# Altium footprint library con-3m.PCBLIB: 62 footprints (part 4 of 5)
Each footprint in its own frame and in the unit in brackets; x right, y up, seen from the top. Pads: shape width x height; smd on the part's side, far side on the other; paste and mask are expansions set on the pad; w line width, h text height; cw(c..) or ccw(c..) is an arc to the next point about the centre after c.
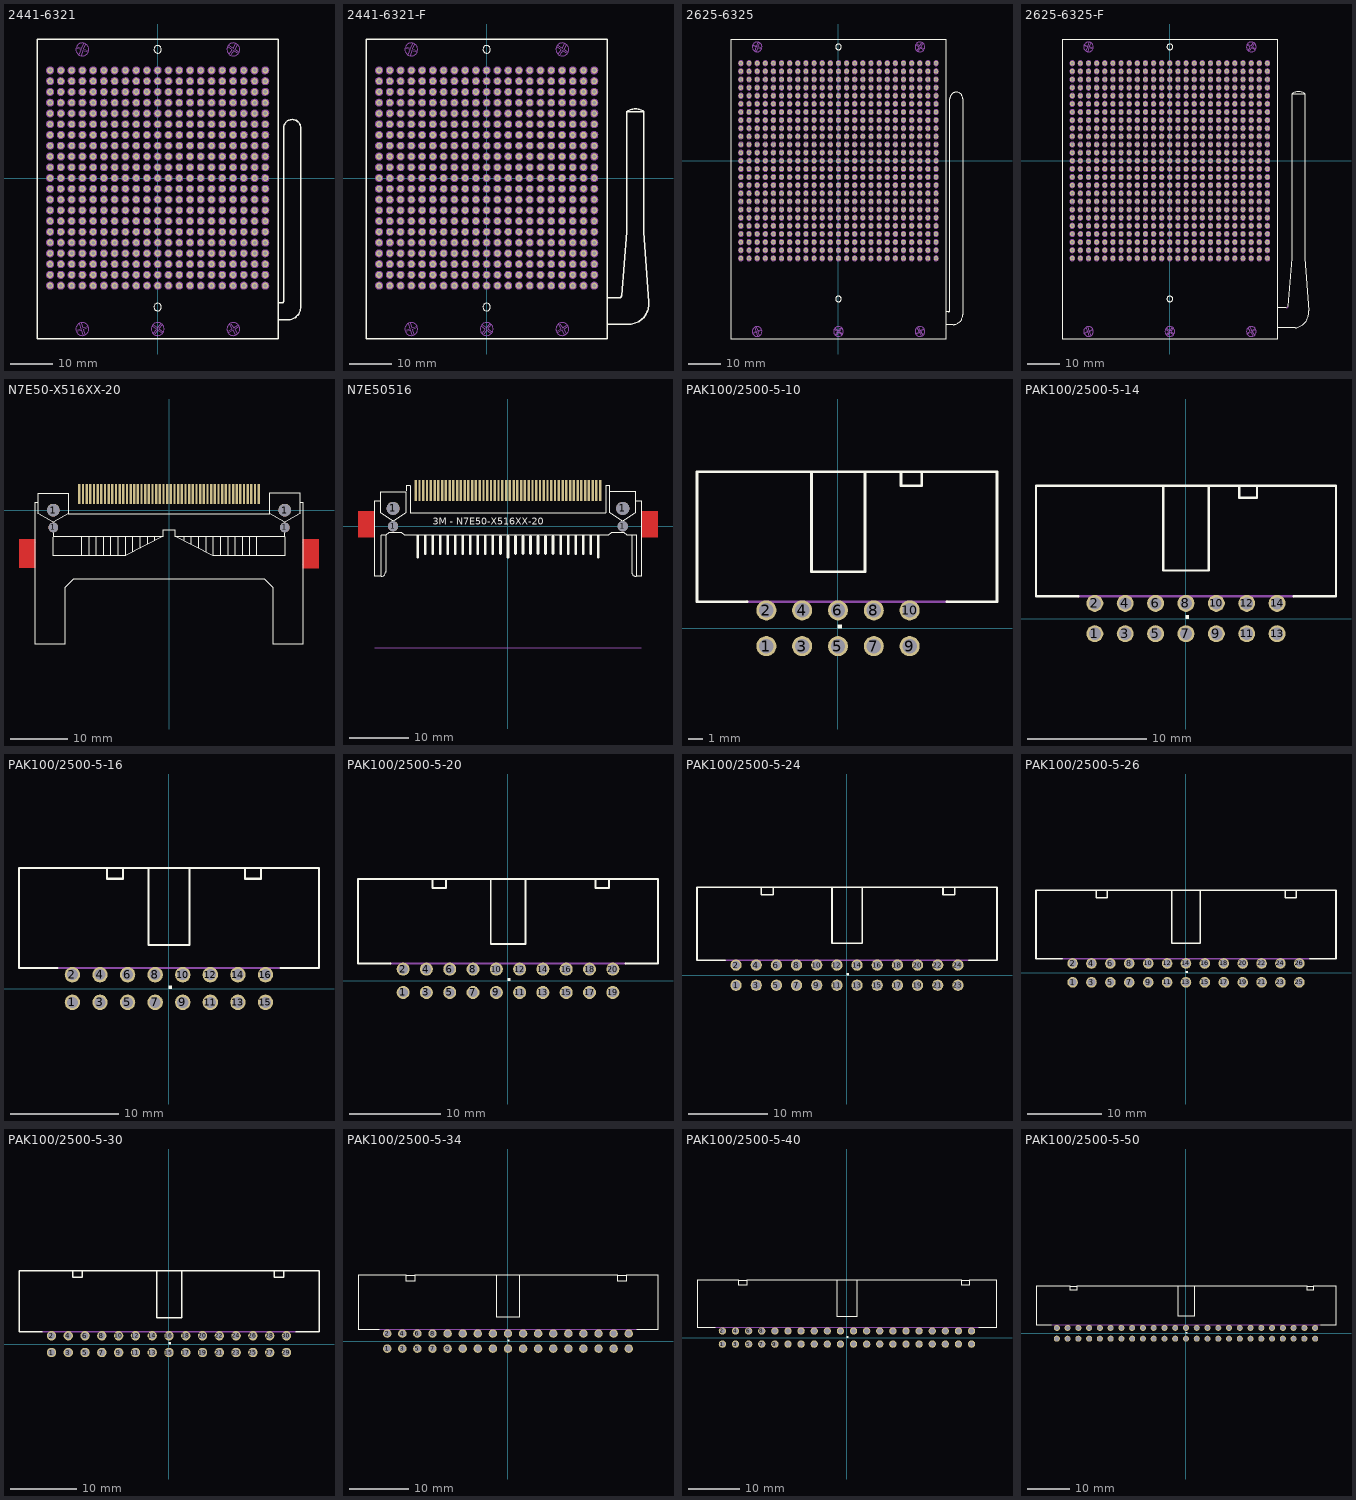
[diagram p3: the footprints below, top view; thin cyan lines are the x and y axes]

## 2441-6321 [mil]
pads (441):
  round 56 hole 32: A1(-1000,1000) A2(-900,1000) A3(-800,1000) A4(-700,1000) A5(-600,1000) A6(-500,1000) A7(-400,1000) A8(-300,1000) A9(-200,1000) A10(-100,1000) A11(0,1000) A12(100,1000) A13(200,1000) A14(300,1000) A15(400,1000) A16(500,1000) A17(600,1000) A18(700,1000) A19(800,1000) A20(900,1000) A21(1000,1000) B1(-1000,900) B2(-900,900) B3(-800,900) B4(-700,900) B5(-600,900) B6(-500,900) B7(-400,900) B8(-300,900) B9(-200,900) B10(-100,900) B11(0,900) B12(100,900) B13(200,900) B14(300,900) B15(400,900) B16(500,900) B17(600,900) B18(700,900) B19(800,900) B20(900,900) B21(1000,900) C1(-1000,800) C2(-900,800) C3(-800,800) C4(-700,800) C5(-600,800) C6(-500,800) C7(-400,800) C8(-300,800) C9(-200,800) C10(-100,800) C11(0,800) C12(100,800) C13(200,800) C14(300,800) C15(400,800) C16(500,800) C17(600,800) C18(700,800) C19(800,800) C20(900,800) C21(1000,800) D1(-1000,700) D2(-900,700) D3(-800,700) D4(-700,700) D5(-600,700) D6(-500,700) D7(-400,700) D8(-300,700) D9(-200,700) D10(-100,700) D11(0,700) D12(100,700) D13(200,700) D14(300,700) D15(400,700) D16(500,700) D17(600,700) D18(700,700) D19(800,700) D20(900,700) D21(1000,700) E1(-1000,600) E2(-900,600) E3(-800,600) E4(-700,600) E5(-600,600) E6(-500,600) E7(-400,600) E8(-300,600) E9(-200,600) E10(-100,600) E11(0,600) E12(100,600) E13(200,600) E14(300,600) E15(400,600) E16(500,600) E17(600,600) E18(700,600) E19(800,600) E20(900,600) E21(1000,600) F1(-1000,500) F2(-900,500) F3(-800,500) F4(-700,500) F5(-600,500) F6(-500,500) F7(-400,500) F8(-300,500) F9(-200,500) F10(-100,500) F11(0,500) F12(100,500) F13(200,500) F14(300,500) F15(400,500) F16(500,500) F17(600,500) F18(700,500) F19(800,500) F20(900,500) F21(1000,500) G1(-1000,400) G2(-900,400) G3(-800,400) G4(-700,400) G5(-600,400) G6(-500,400) G7(-400,400) G8(-300,400) G9(-200,400) G10(-100,400) G11(0,400) G12(100,400) G13(200,400) G14(300,400) G15(400,400) G16(500,400) G17(600,400) G18(700,400) G19(800,400) G20(900,400) G21(1000,400) H1(-1000,300) H2(-900,300) H3(-800,300) H4(-700,300) H5(-600,300) H6(-500,300) H7(-400,300) H8(-300,300) H9(-200,300) H10(-100,300) H11(0,300) H12(100,300) H13(200,300) H14(300,300) H15(400,300) H16(500,300) H17(600,300) H18(700,300) H19(800,300) H20(900,300) H21(1000,300) J1(-1000,200) J2(-900,200) J3(-800,200) J4(-700,200) J5(-600,200) J6(-500,200) J7(-400,200) J8(-300,200) J9(-200,200) J10(-100,200) J11(0,200) J12(100,200) J13(200,200) J14(300,200) J15(400,200) J16(500,200) J17(600,200) J18(700,200) J19(800,200) J20(900,200) J21(1000,200) K1(-1000,100) K2(-900,100) K3(-800,100) K4(-700,100) K5(-600,100) K6(-500,100) K7(-400,100) K8(-300,100) K9(-200,100) K10(-100,100) K11(0,100) K12(100,100) K13(200,100) K14(300,100) K15(400,100) K16(500,100) K17(600,100) K18(700,100) K19(800,100) K20(900,100) K21(1000,100) L1(-1000,0) L2(-900,0) L3(-800,0) L4(-700,0) L5(-600,0) L6(-500,0) L7(-400,0) L8(-300,0) L9(-200,0) L10(-100,0) L11(0,0) L12(100,0) L13(200,0) L14(300,0) L15(400,0) L16(500,0) L17(600,0) L18(700,0) L19(800,0) L20(900,0) L21(1000,0) M1(-1000,-100) M2(-900,-100) M3(-800,-100) M4(-700,-100) M5(-600,-100) M6(-500,-100) M7(-400,-100) M8(-300,-100) M9(-200,-100) M10(-100,-100) M11(0,-100) M12(100,-100) M13(200,-100) M14(300,-100) M15(400,-100) M16(500,-100) M17(600,-100) M18(700,-100) M19(800,-100) M20(900,-100) M21(1000,-100) N1(-1000,-200) N2(-900,-200) N3(-800,-200) N4(-700,-200) N5(-600,-200) N6(-500,-200) N7(-400,-200) N8(-300,-200) N9(-200,-200) N10(-100,-200) N11(0,-200) N12(100,-200) N13(200,-200) N14(300,-200) N15(400,-200) N16(500,-200) N17(600,-200) N18(700,-200) N19(800,-200) N20(900,-200) N21(1000,-200) P1(-1000,-300) P2(-900,-300) P3(-800,-300) P4(-700,-300) P5(-600,-300) P6(-500,-300) P7(-400,-300) P8(-300,-300) P9(-200,-300) P10(-100,-300) P11(0,-300) P12(100,-300) P13(200,-300) P14(300,-300) P15(400,-300) P16(500,-300) P17(600,-300) P18(700,-300) P19(800,-300) P20(900,-300) P21(1000,-300) Q1(-1000,-400) Q2(-900,-400) Q3(-800,-400) Q4(-700,-400) Q5(-600,-400) Q6(-500,-400) Q7(-400,-400) Q8(-300,-400) Q9(-200,-400) Q10(-100,-400) Q11(0,-400) Q12(100,-400) Q13(200,-400) Q14(300,-400) Q15(400,-400) Q16(500,-400) Q17(600,-400) Q18(700,-400) Q19(800,-400) Q20(900,-400) Q21(1000,-400) R1(-1000,-500) R2(-900,-500) R3(-800,-500) R4(-700,-500) R5(-600,-500) R6(-500,-500) R7(-400,-500) R8(-300,-500) R9(-200,-500) R10(-100,-500) R11(0,-500) R12(100,-500) R13(200,-500) R14(300,-500) R15(400,-500) R16(500,-500) R17(600,-500) R18(700,-500) R19(800,-500) R20(900,-500) R21(1000,-500) S1(-1000,-600) S2(-900,-600) S3(-800,-600) S4(-700,-600) S5(-600,-600) S6(-500,-600) S7(-400,-600) S8(-300,-600) S9(-200,-600) S10(-100,-600) S11(0,-600) S12(100,-600) S13(200,-600) S14(300,-600) S15(400,-600) S16(500,-600) S17(600,-600) S18(700,-600) S19(800,-600) S20(900,-600) S21(1000,-600) T1(-1000,-700) T2(-900,-700) T3(-800,-700) T4(-700,-700) T5(-600,-700) T6(-500,-700) T7(-400,-700) T8(-300,-700) T9(-200,-700) T10(-100,-700) T11(0,-700) T12(100,-700) T13(200,-700) T14(300,-700) T15(400,-700) T16(500,-700) T17(600,-700) T18(700,-700) T19(800,-700) T20(900,-700) T21(1000,-700) U1(-1000,-800) U2(-900,-800) U3(-800,-800) U4(-700,-800) U5(-600,-800) U6(-500,-800) U7(-400,-800) U8(-300,-800) U9(-200,-800) U10(-100,-800) U11(0,-800) U12(100,-800) U13(200,-800) U14(300,-800) U15(400,-800) U16(500,-800) U17(600,-800) U18(700,-800) U19(800,-800) U20(900,-800) U21(1000,-800) V1(-1000,-900) V2(-900,-900) V3(-800,-900) V4(-700,-900) V5(-600,-900) V6(-500,-900) V7(-400,-900) V8(-300,-900) V9(-200,-900) V10(-100,-900) V11(0,-900) V12(100,-900) V13(200,-900) V14(300,-900) V15(400,-900) V16(500,-900) V17(600,-900) V18(700,-900) V19(800,-900) V20(900,-900) V21(1000,-900) W1(-1000,-1000) W2(-900,-1000) W3(-800,-1000) W4(-700,-1000) W5(-600,-1000) W6(-500,-1000) W7(-400,-1000) W8(-300,-1000) W9(-200,-1000) W10(-100,-1000) W11(0,-1000) W12(100,-1000) W13(200,-1000) W14(300,-1000) W15(400,-1000) W16(500,-1000) W17(600,-1000) W18(700,-1000) W19(800,-1000) W20(900,-1000) W21(1000,-1000)
Top Overlay:
  circle w4: c0,1196 r35
  circle w4: c0,-1199 r35
  lines w12: 1121,-1318.7 1210,-1318.7 ccw(c1207.88,-1198.58) 1328,-1196.46 1328,465 ccw(c1249.5,465.5) 1250,544 ccw(c1250,465) 1171,465 1171,-1141.54 cw(c1151.16,-1141.38) 1151,-1161.22 1121,-1161.22 ; -1119.09,-1495.87 1119,-1495.87 1119,1292 -1119.09,1292 -1119.09,-1495.87
Mechanical 16:
  drawing of 486 lines, arcs and shapes, not listed

## 2441-6321-F [mil]
pads (441):
  round 56 hole 32: A1(-1000,1000) A2(-900,1000) A3(-800,1000) A4(-700,1000) A5(-600,1000) A6(-500,1000) A7(-400,1000) A8(-300,1000) A9(-200,1000) A10(-100,1000) A11(0,1000) A12(100,1000) A13(200,1000) A14(300,1000) A15(400,1000) A16(500,1000) A17(600,1000) A18(700,1000) A19(800,1000) A20(900,1000) A21(1000,1000) B1(-1000,900) B2(-900,900) B3(-800,900) B4(-700,900) B5(-600,900) B6(-500,900) B7(-400,900) B8(-300,900) B9(-200,900) B10(-100,900) B11(0,900) B12(100,900) B13(200,900) B14(300,900) B15(400,900) B16(500,900) B17(600,900) B18(700,900) B19(800,900) B20(900,900) B21(1000,900) C1(-1000,800) C2(-900,800) C3(-800,800) C4(-700,800) C5(-600,800) C6(-500,800) C7(-400,800) C8(-300,800) C9(-200,800) C10(-100,800) C11(0,800) C12(100,800) C13(200,800) C14(300,800) C15(400,800) C16(500,800) C17(600,800) C18(700,800) C19(800,800) C20(900,800) C21(1000,800) D1(-1000,700) D2(-900,700) D3(-800,700) D4(-700,700) D5(-600,700) D6(-500,700) D7(-400,700) D8(-300,700) D9(-200,700) D10(-100,700) D11(0,700) D12(100,700) D13(200,700) D14(300,700) D15(400,700) D16(500,700) D17(600,700) D18(700,700) D19(800,700) D20(900,700) D21(1000,700) E1(-1000,600) E2(-900,600) E3(-800,600) E4(-700,600) E5(-600,600) E6(-500,600) E7(-400,600) E8(-300,600) E9(-200,600) E10(-100,600) E11(0,600) E12(100,600) E13(200,600) E14(300,600) E15(400,600) E16(500,600) E17(600,600) E18(700,600) E19(800,600) E20(900,600) E21(1000,600) F1(-1000,500) F2(-900,500) F3(-800,500) F4(-700,500) F5(-600,500) F6(-500,500) F7(-400,500) F8(-300,500) F9(-200,500) F10(-100,500) F11(0,500) F12(100,500) F13(200,500) F14(300,500) F15(400,500) F16(500,500) F17(600,500) F18(700,500) F19(800,500) F20(900,500) F21(1000,500) G1(-1000,400) G2(-900,400) G3(-800,400) G4(-700,400) G5(-600,400) G6(-500,400) G7(-400,400) G8(-300,400) G9(-200,400) G10(-100,400) G11(0,400) G12(100,400) G13(200,400) G14(300,400) G15(400,400) G16(500,400) G17(600,400) G18(700,400) G19(800,400) G20(900,400) G21(1000,400) H1(-1000,300) H2(-900,300) H3(-800,300) H4(-700,300) H5(-600,300) H6(-500,300) H7(-400,300) H8(-300,300) H9(-200,300) H10(-100,300) H11(0,300) H12(100,300) H13(200,300) H14(300,300) H15(400,300) H16(500,300) H17(600,300) H18(700,300) H19(800,300) H20(900,300) H21(1000,300) J1(-1000,200) J2(-900,200) J3(-800,200) J4(-700,200) J5(-600,200) J6(-500,200) J7(-400,200) J8(-300,200) J9(-200,200) J10(-100,200) J11(0,200) J12(100,200) J13(200,200) J14(300,200) J15(400,200) J16(500,200) J17(600,200) J18(700,200) J19(800,200) J20(900,200) J21(1000,200) K1(-1000,100) K2(-900,100) K3(-800,100) K4(-700,100) K5(-600,100) K6(-500,100) K7(-400,100) K8(-300,100) K9(-200,100) K10(-100,100) K11(0,100) K12(100,100) K13(200,100) K14(300,100) K15(400,100) K16(500,100) K17(600,100) K18(700,100) K19(800,100) K20(900,100) K21(1000,100) L1(-1000,0) L2(-900,0) L3(-800,0) L4(-700,0) L5(-600,0) L6(-500,0) L7(-400,0) L8(-300,0) L9(-200,0) L10(-100,0) L11(0,0) L12(100,0) L13(200,0) L14(300,0) L15(400,0) L16(500,0) L17(600,0) L18(700,0) L19(800,0) L20(900,0) L21(1000,0) M1(-1000,-100) M2(-900,-100) M3(-800,-100) M4(-700,-100) M5(-600,-100) M6(-500,-100) M7(-400,-100) M8(-300,-100) M9(-200,-100) M10(-100,-100) M11(0,-100) M12(100,-100) M13(200,-100) M14(300,-100) M15(400,-100) M16(500,-100) M17(600,-100) M18(700,-100) M19(800,-100) M20(900,-100) M21(1000,-100) N1(-1000,-200) N2(-900,-200) N3(-800,-200) N4(-700,-200) N5(-600,-200) N6(-500,-200) N7(-400,-200) N8(-300,-200) N9(-200,-200) N10(-100,-200) N11(0,-200) N12(100,-200) N13(200,-200) N14(300,-200) N15(400,-200) N16(500,-200) N17(600,-200) N18(700,-200) N19(800,-200) N20(900,-200) N21(1000,-200) P1(-1000,-300) P2(-900,-300) P3(-800,-300) P4(-700,-300) P5(-600,-300) P6(-500,-300) P7(-400,-300) P8(-300,-300) P9(-200,-300) P10(-100,-300) P11(0,-300) P12(100,-300) P13(200,-300) P14(300,-300) P15(400,-300) P16(500,-300) P17(600,-300) P18(700,-300) P19(800,-300) P20(900,-300) P21(1000,-300) Q1(-1000,-400) Q2(-900,-400) Q3(-800,-400) Q4(-700,-400) Q5(-600,-400) Q6(-500,-400) Q7(-400,-400) Q8(-300,-400) Q9(-200,-400) Q10(-100,-400) Q11(0,-400) Q12(100,-400) Q13(200,-400) Q14(300,-400) Q15(400,-400) Q16(500,-400) Q17(600,-400) Q18(700,-400) Q19(800,-400) Q20(900,-400) Q21(1000,-400) R1(-1000,-500) R2(-900,-500) R3(-800,-500) R4(-700,-500) R5(-600,-500) R6(-500,-500) R7(-400,-500) R8(-300,-500) R9(-200,-500) R10(-100,-500) R11(0,-500) R12(100,-500) R13(200,-500) R14(300,-500) R15(400,-500) R16(500,-500) R17(600,-500) R18(700,-500) R19(800,-500) R20(900,-500) R21(1000,-500) S1(-1000,-600) S2(-900,-600) S3(-800,-600) S4(-700,-600) S5(-600,-600) S6(-500,-600) S7(-400,-600) S8(-300,-600) S9(-200,-600) S10(-100,-600) S11(0,-600) S12(100,-600) S13(200,-600) S14(300,-600) S15(400,-600) S16(500,-600) S17(600,-600) S18(700,-600) S19(800,-600) S20(900,-600) S21(1000,-600) T1(-1000,-700) T2(-900,-700) T3(-800,-700) T4(-700,-700) T5(-600,-700) T6(-500,-700) T7(-400,-700) T8(-300,-700) T9(-200,-700) T10(-100,-700) T11(0,-700) T12(100,-700) T13(200,-700) T14(300,-700) T15(400,-700) T16(500,-700) T17(600,-700) T18(700,-700) T19(800,-700) T20(900,-700) T21(1000,-700) U1(-1000,-800) U2(-900,-800) U3(-800,-800) U4(-700,-800) U5(-600,-800) U6(-500,-800) U7(-400,-800) U8(-300,-800) U9(-200,-800) U10(-100,-800) U11(0,-800) U12(100,-800) U13(200,-800) U14(300,-800) U15(400,-800) U16(500,-800) U17(600,-800) U18(700,-800) U19(800,-800) U20(900,-800) U21(1000,-800) V1(-1000,-900) V2(-900,-900) V3(-800,-900) V4(-700,-900) V5(-600,-900) V6(-500,-900) V7(-400,-900) V8(-300,-900) V9(-200,-900) V10(-100,-900) V11(0,-900) V12(100,-900) V13(200,-900) V14(300,-900) V15(400,-900) V16(500,-900) V17(600,-900) V18(700,-900) V19(800,-900) V20(900,-900) V21(1000,-900) W1(-1000,-1000) W2(-900,-1000) W3(-800,-1000) W4(-700,-1000) W5(-600,-1000) W6(-500,-1000) W7(-400,-1000) W8(-300,-1000) W9(-200,-1000) W10(-100,-1000) W11(0,-1000) W12(100,-1000) W13(200,-1000) W14(300,-1000) W15(400,-1000) W16(500,-1000) W17(600,-1000) W18(700,-1000) W19(800,-1000) W20(900,-1000) W21(1000,-1000)
Top Overlay:
  circle w4: c0,1196 r35
  circle w4: c0,-1199 r35
  lines w12: 1120,-1357.09 1343,-1357.09 ccw(c1319.67,-1171.76) 1505,-1148.43 1461,-501.97 1461,617 ; 1124,-1112.99 1233,-1112.99 ccw(c1233.16,-1093.15) 1253,-1093.31 1304,-500 1304,617 ; 1304,617 1461,617 ; 1304,617 cw(c1382.5,509.67) 1461,617 ; -1119.09,-1495.87 1119,-1495.87 1119,1292 -1119.09,1292 -1119.09,-1495.87
Mechanical 16:
  drawing of 486 lines, arcs and shapes, not listed

## 2625-6325 [mil]
pads (625):
  round 56 hole 32: A1(-1200,1200) A2(-1100,1200) A3(-1000,1200) A4(-900,1200) A5(-800,1200) A6(-700,1200) A7(-600,1200) A8(-500,1200) A9(-400,1200) A10(-300,1200) A11(-200,1200) A12(-100,1200) A13(0,1200) A14(100,1200) A15(200,1200) A16(300,1200) A17(400,1200) A18(500,1200) A19(600,1200) A20(700,1200) A21(800,1200) A22(900,1200) A23(1000,1200) A24(1100,1200) A25(1200,1200) AA1(-1200,-1200) AA2(-1100,-1200) AA3(-1000,-1200) AA4(-900,-1200) AA5(-800,-1200) AA6(-700,-1200) AA7(-600,-1200) AA8(-500,-1200) AA9(-400,-1200) AA10(-300,-1200) AA11(-200,-1200) AA12(-100,-1200) AA13(0,-1200) AA14(100,-1200) AA15(200,-1200) AA16(300,-1200) AA17(400,-1200) AA18(500,-1200) AA19(600,-1200) AA20(700,-1200) AA21(800,-1200) AA22(900,-1200) AA23(1000,-1200) AA24(1100,-1200) AA25(1200,-1200) B1(-1200,1100) B2(-1100,1100) B3(-1000,1100) B4(-900,1100) B5(-800,1100) B6(-700,1100) B7(-600,1100) B8(-500,1100) B9(-400,1100) B10(-300,1100) B11(-200,1100) B12(-100,1100) B13(0,1100) B14(100,1100) B15(200,1100) B16(300,1100) B17(400,1100) B18(500,1100) B19(600,1100) B20(700,1100) B21(800,1100) B22(900,1100) B23(1000,1100) B24(1100,1100) B25(1200,1100) C1(-1200,1000) C2(-1100,1000) C3(-1000,1000) C4(-900,1000) C5(-800,1000) C6(-700,1000) C7(-600,1000) C8(-500,1000) C9(-400,1000) C10(-300,1000) C11(-200,1000) C12(-100,1000) C13(0,1000) C14(100,1000) C15(200,1000) C16(300,1000) C17(400,1000) C18(500,1000) C19(600,1000) C20(700,1000) C21(800,1000) C22(900,1000) C23(1000,1000) C24(1100,1000) C25(1200,1000) D1(-1200,900) D2(-1100,900) D3(-1000,900) D4(-900,900) D5(-800,900) D6(-700,900) D7(-600,900) D8(-500,900) D9(-400,900) D10(-300,900) D11(-200,900) D12(-100,900) D13(0,900) D14(100,900) D15(200,900) D16(300,900) D17(400,900) D18(500,900) D19(600,900) D20(700,900) D21(800,900) D22(900,900) D23(1000,900) D24(1100,900) D25(1200,900) E1(-1200,800) E2(-1100,800) E3(-1000,800) E4(-900,800) E5(-800,800) E6(-700,800) E7(-600,800) E8(-500,800) E9(-400,800) E10(-300,800) E11(-200,800) E12(-100,800) E13(0,800) E14(100,800) E15(200,800) E16(300,800) E17(400,800) E18(500,800) E19(600,800) E20(700,800) E21(800,800) E22(900,800) E23(1000,800) E24(1100,800) E25(1200,800) F1(-1200,700) F2(-1100,700) F3(-1000,700) F4(-900,700) F5(-800,700) F6(-700,700) F7(-600,700) F8(-500,700) F9(-400,700) F10(-300,700) F11(-200,700) F12(-100,700) F13(0,700) F14(100,700) F15(200,700) F16(300,700) F17(400,700) F18(500,700) F19(600,700) F20(700,700) F21(800,700) F22(900,700) F23(1000,700) F24(1100,700) F25(1200,700) G1(-1200,600) G2(-1100,600) G3(-1000,600) G4(-900,600) G5(-800,600) G6(-700,600) G7(-600,600) G8(-500,600) G9(-400,600) G10(-300,600) G11(-200,600) G12(-100,600) G13(0,600) G14(100,600) G15(200,600) G16(300,600) G17(400,600) G18(500,600) G19(600,600) G20(700,600) G21(800,600) G22(900,600) G23(1000,600) G24(1100,600) G25(1200,600) H1(-1200,500) H2(-1100,500) H3(-1000,500) H4(-900,500) H5(-800,500) H6(-700,500) H7(-600,500) H8(-500,500) H9(-400,500) H10(-300,500) H11(-200,500) H12(-100,500) H13(0,500) H14(100,500) H15(200,500) H16(300,500) H17(400,500) H18(500,500) H19(600,500) H20(700,500) H21(800,500) H22(900,500) H23(1000,500) H24(1100,500) H25(1200,500) J1(-1200,400) J2(-1100,400) J3(-1000,400) J4(-900,400) J5(-800,400) J6(-700,400) J7(-600,400) J8(-500,400) J9(-400,400) J10(-300,400) J11(-200,400) J12(-100,400) J13(0,400) J14(100,400) J15(200,400) J16(300,400) J17(400,400) J18(500,400) J19(600,400) J20(700,400) J21(800,400) J22(900,400) J23(1000,400) J24(1100,400) J25(1200,400) K1(-1200,300) K2(-1100,300) K3(-1000,300) K4(-900,300) K5(-800,300) K6(-700,300) K7(-600,300) K8(-500,300) K9(-400,300) K10(-300,300) K11(-200,300) K12(-100,300) K13(0,300) K14(100,300) K15(200,300) K16(300,300) K17(400,300) K18(500,300) K19(600,300) K20(700,300) K21(800,300) K22(900,300) K23(1000,300) K24(1100,300) K25(1200,300) L1(-1200,200) L2(-1100,200) L3(-1000,200) L4(-900,200) L5(-800,200) L6(-700,200) L7(-600,200) L8(-500,200) L9(-400,200) L10(-300,200) L11(-200,200) L12(-100,200) L13(0,200) L14(100,200) L15(200,200) L16(300,200) L17(400,200) L18(500,200) L19(600,200) L20(700,200) L21(800,200) L22(900,200) L23(1000,200) L24(1100,200) L25(1200,200) M1(-1200,100) M2(-1100,100) M3(-1000,100) M4(-900,100) M5(-800,100) M6(-700,100) M7(-600,100) M8(-500,100) M9(-400,100) M10(-300,100) M11(-200,100) M12(-100,100) M13(0,100) M14(100,100) M15(200,100) M16(300,100) M17(400,100) M18(500,100) M19(600,100) M20(700,100) M21(800,100) M22(900,100) M23(1000,100) M24(1100,100) M25(1200,100) N1(-1200,0) N2(-1100,0) N3(-1000,0) N4(-900,0) N5(-800,0) N6(-700,0) N7(-600,0) N8(-500,0) N9(-400,0) N10(-300,0) N11(-200,0) N12(-100,0) N13(0,0) N14(100,0) N15(200,0) N16(300,0) N17(400,0) N18(500,0) N19(600,0) N20(700,0) N21(800,0) N22(900,0) N23(1000,0) N24(1100,0) N25(1200,0) P1(-1200,-100) P2(-1100,-100) P3(-1000,-100) P4(-900,-100) P5(-800,-100) P6(-700,-100) P7(-600,-100) P8(-500,-100) P9(-400,-100) P10(-300,-100) P11(-200,-100) P12(-100,-100) P13(0,-100) P14(100,-100) P15(200,-100) P16(300,-100) P17(400,-100) P18(500,-100) P19(600,-100) P20(700,-100) P21(800,-100) P22(900,-100) P23(1000,-100) P24(1100,-100) P25(1200,-100) Q1(-1200,-200) Q2(-1100,-200) Q3(-1000,-200) Q4(-900,-200) Q5(-800,-200) Q6(-700,-200) Q7(-600,-200) Q8(-500,-200) Q9(-400,-200) Q10(-300,-200) Q11(-200,-200) Q12(-100,-200) Q13(0,-200) Q14(100,-200) Q15(200,-200) Q16(300,-200) Q17(400,-200) Q18(500,-200) Q19(600,-200) Q20(700,-200) Q21(800,-200) Q22(900,-200) Q23(1000,-200) Q24(1100,-200) Q25(1200,-200) R1(-1200,-300) R2(-1100,-300) R3(-1000,-300) R4(-900,-300) R5(-800,-300) R6(-700,-300) R7(-600,-300) R8(-500,-300) R9(-400,-300) R10(-300,-300) R11(-200,-300) R12(-100,-300) R13(0,-300) R14(100,-300) R15(200,-300) R16(300,-300) R17(400,-300) R18(500,-300) R19(600,-300) R20(700,-300) R21(800,-300) R22(900,-300) R23(1000,-300) R24(1100,-300) R25(1200,-300) S1(-1200,-400) S2(-1100,-400) S3(-1000,-400) S4(-900,-400) S5(-800,-400) S6(-700,-400) S7(-600,-400) S8(-500,-400) S9(-400,-400) S10(-300,-400) S11(-200,-400) S12(-100,-400) S13(0,-400) S14(100,-400) S15(200,-400) S16(300,-400) S17(400,-400) S18(500,-400) S19(600,-400) S20(700,-400) S21(800,-400) S22(900,-400) S23(1000,-400) S24(1100,-400) S25(1200,-400) T1(-1200,-500) T2(-1100,-500) T3(-1000,-500) T4(-900,-500) T5(-800,-500) T6(-700,-500) T7(-600,-500) T8(-500,-500) T9(-400,-500) T10(-300,-500) T11(-200,-500) T12(-100,-500) T13(0,-500) T14(100,-500) T15(200,-500) T16(300,-500) T17(400,-500) T18(500,-500) T19(600,-500) T20(700,-500) T21(800,-500) T22(900,-500) T23(1000,-500) T24(1100,-500) T25(1200,-500) U1(-1200,-600) U2(-1100,-600) U3(-1000,-600) U4(-900,-600) U5(-800,-600) U6(-700,-600) U7(-600,-600) U8(-500,-600) U9(-400,-600) U10(-300,-600) U11(-200,-600) U12(-100,-600) U13(0,-600) U14(100,-600) U15(200,-600) U16(300,-600) U17(400,-600) U18(500,-600) U19(600,-600) U20(700,-600) U21(800,-600) U22(900,-600) U23(1000,-600) U24(1100,-600) U25(1200,-600) V1(-1200,-700) V2(-1100,-700) V3(-1000,-700) V4(-900,-700) V5(-800,-700) V6(-700,-700) V7(-600,-700) V8(-500,-700) V9(-400,-700) V10(-300,-700) V11(-200,-700) V12(-100,-700) V13(0,-700) V14(100,-700) V15(200,-700) V16(300,-700) V17(400,-700) V18(500,-700) V19(600,-700) V20(700,-700) V21(800,-700) V22(900,-700) V23(1000,-700) V24(1100,-700) V25(1200,-700) W1(-1200,-800) W2(-1100,-800) W3(-1000,-800) W4(-900,-800) W5(-800,-800) W6(-700,-800) W7(-600,-800) W8(-500,-800) W9(-400,-800) W10(-300,-800) W11(-200,-800) W12(-100,-800) W13(0,-800) W14(100,-800) W15(200,-800) W16(300,-800) W17(400,-800) W18(500,-800) W19(600,-800) W20(700,-800) W21(800,-800) W22(900,-800) W23(1000,-800) W24(1100,-800) W25(1200,-800) X1(-1200,-900) X2(-1100,-900) X3(-1000,-900) X4(-900,-900) X5(-800,-900) X6(-700,-900) X7(-600,-900) X8(-500,-900) X9(-400,-900) X10(-300,-900) X11(-200,-900) X12(-100,-900) X13(0,-900) X14(100,-900) X15(200,-900) X16(300,-900) X17(400,-900) X18(500,-900) X19(600,-900) X20(700,-900) X21(800,-900) X22(900,-900) X23(1000,-900) X24(1100,-900) X25(1200,-900) Y1(-1200,-1000) Y2(-1100,-1000) Y3(-1000,-1000) Y4(-900,-1000) Y5(-800,-1000) Y6(-700,-1000) Y7(-600,-1000) Y8(-500,-1000) Y9(-400,-1000) Y10(-300,-1000) Y11(-200,-1000) Y12(-100,-1000) Y13(0,-1000) Y14(100,-1000) Y15(200,-1000) Y16(300,-1000) Y17(400,-1000) Y18(500,-1000) Y19(600,-1000) Y20(700,-1000) Y21(800,-1000) Y22(900,-1000) Y23(1000,-1000) Y24(1100,-1000) Y25(1200,-1000) Z1(-1200,-1100) Z2(-1100,-1100) Z3(-1000,-1100) Z4(-900,-1100) Z5(-800,-1100) Z6(-700,-1100) Z7(-600,-1100) Z8(-500,-1100) Z9(-400,-1100) Z10(-300,-1100) Z11(-200,-1100) Z12(-100,-1100) Z13(0,-1100) Z14(100,-1100) Z15(200,-1100) Z16(300,-1100) Z17(400,-1100) Z18(500,-1100) Z19(600,-1100) Z20(700,-1100) Z21(800,-1100) Z22(900,-1100) Z23(1000,-1100) Z24(1100,-1100) Z25(1200,-1100)
Top Overlay:
  circle w4: c0,1401 r35
  circle w4: c0,-1699 r35
  lines w12: 1321,-2014.57 1410,-2014.57 ccw(c1409.94,-1896.51) 1528,-1896.46 1528,765 ccw(c1449.5,765.5) 1450,844 ccw(c1450,765) 1371,765 1371,-1837.4 cw(c1351.16,-1837.24) 1351,-1857.09 1321,-1857.09 ; -1318.9,-2191.73 1319,-2191.73 1319,1498 -1318.9,1498 -1318.9,-2191.73
Mechanical 16:
  drawing of 670 lines, arcs and shapes, not listed

## 2625-6325-F [mil]
pads (625):
  round 56 hole 32: A1(-1200,1200) A2(-1100,1200) A3(-1000,1200) A4(-900,1200) A5(-800,1200) A6(-700,1200) A7(-600,1200) A8(-500,1200) A9(-400,1200) A10(-300,1200) A11(-200,1200) A12(-100,1200) A13(0,1200) A14(100,1200) A15(200,1200) A16(300,1200) A17(400,1200) A18(500,1200) A19(600,1200) A20(700,1200) A21(800,1200) A22(900,1200) A23(1000,1200) A24(1100,1200) A25(1200,1200) AA1(-1200,-1200) AA2(-1100,-1200) AA3(-1000,-1200) AA4(-900,-1200) AA5(-800,-1200) AA6(-700,-1200) AA7(-600,-1200) AA8(-500,-1200) AA9(-400,-1200) AA10(-300,-1200) AA11(-200,-1200) AA12(-100,-1200) AA13(0,-1200) AA14(100,-1200) AA15(200,-1200) AA16(300,-1200) AA17(400,-1200) AA18(500,-1200) AA19(600,-1200) AA20(700,-1200) AA21(800,-1200) AA22(900,-1200) AA23(1000,-1200) AA24(1100,-1200) AA25(1200,-1200) B1(-1200,1100) B2(-1100,1100) B3(-1000,1100) B4(-900,1100) B5(-800,1100) B6(-700,1100) B7(-600,1100) B8(-500,1100) B9(-400,1100) B10(-300,1100) B11(-200,1100) B12(-100,1100) B13(0,1100) B14(100,1100) B15(200,1100) B16(300,1100) B17(400,1100) B18(500,1100) B19(600,1100) B20(700,1100) B21(800,1100) B22(900,1100) B23(1000,1100) B24(1100,1100) B25(1200,1100) C1(-1200,1000) C2(-1100,1000) C3(-1000,1000) C4(-900,1000) C5(-800,1000) C6(-700,1000) C7(-600,1000) C8(-500,1000) C9(-400,1000) C10(-300,1000) C11(-200,1000) C12(-100,1000) C13(0,1000) C14(100,1000) C15(200,1000) C16(300,1000) C17(400,1000) C18(500,1000) C19(600,1000) C20(700,1000) C21(800,1000) C22(900,1000) C23(1000,1000) C24(1100,1000) C25(1200,1000) D1(-1200,900) D2(-1100,900) D3(-1000,900) D4(-900,900) D5(-800,900) D6(-700,900) D7(-600,900) D8(-500,900) D9(-400,900) D10(-300,900) D11(-200,900) D12(-100,900) D13(0,900) D14(100,900) D15(200,900) D16(300,900) D17(400,900) D18(500,900) D19(600,900) D20(700,900) D21(800,900) D22(900,900) D23(1000,900) D24(1100,900) D25(1200,900) E1(-1200,800) E2(-1100,800) E3(-1000,800) E4(-900,800) E5(-800,800) E6(-700,800) E7(-600,800) E8(-500,800) E9(-400,800) E10(-300,800) E11(-200,800) E12(-100,800) E13(0,800) E14(100,800) E15(200,800) E16(300,800) E17(400,800) E18(500,800) E19(600,800) E20(700,800) E21(800,800) E22(900,800) E23(1000,800) E24(1100,800) E25(1200,800) F1(-1200,700) F2(-1100,700) F3(-1000,700) F4(-900,700) F5(-800,700) F6(-700,700) F7(-600,700) F8(-500,700) F9(-400,700) F10(-300,700) F11(-200,700) F12(-100,700) F13(0,700) F14(100,700) F15(200,700) F16(300,700) F17(400,700) F18(500,700) F19(600,700) F20(700,700) F21(800,700) F22(900,700) F23(1000,700) F24(1100,700) F25(1200,700) G1(-1200,600) G2(-1100,600) G3(-1000,600) G4(-900,600) G5(-800,600) G6(-700,600) G7(-600,600) G8(-500,600) G9(-400,600) G10(-300,600) G11(-200,600) G12(-100,600) G13(0,600) G14(100,600) G15(200,600) G16(300,600) G17(400,600) G18(500,600) G19(600,600) G20(700,600) G21(800,600) G22(900,600) G23(1000,600) G24(1100,600) G25(1200,600) H1(-1200,500) H2(-1100,500) H3(-1000,500) H4(-900,500) H5(-800,500) H6(-700,500) H7(-600,500) H8(-500,500) H9(-400,500) H10(-300,500) H11(-200,500) H12(-100,500) H13(0,500) H14(100,500) H15(200,500) H16(300,500) H17(400,500) H18(500,500) H19(600,500) H20(700,500) H21(800,500) H22(900,500) H23(1000,500) H24(1100,500) H25(1200,500) J1(-1200,400) J2(-1100,400) J3(-1000,400) J4(-900,400) J5(-800,400) J6(-700,400) J7(-600,400) J8(-500,400) J9(-400,400) J10(-300,400) J11(-200,400) J12(-100,400) J13(0,400) J14(100,400) J15(200,400) J16(300,400) J17(400,400) J18(500,400) J19(600,400) J20(700,400) J21(800,400) J22(900,400) J23(1000,400) J24(1100,400) J25(1200,400) K1(-1200,300) K2(-1100,300) K3(-1000,300) K4(-900,300) K5(-800,300) K6(-700,300) K7(-600,300) K8(-500,300) K9(-400,300) K10(-300,300) K11(-200,300) K12(-100,300) K13(0,300) K14(100,300) K15(200,300) K16(300,300) K17(400,300) K18(500,300) K19(600,300) K20(700,300) K21(800,300) K22(900,300) K23(1000,300) K24(1100,300) K25(1200,300) L1(-1200,200) L2(-1100,200) L3(-1000,200) L4(-900,200) L5(-800,200) L6(-700,200) L7(-600,200) L8(-500,200) L9(-400,200) L10(-300,200) L11(-200,200) L12(-100,200) L13(0,200) L14(100,200) L15(200,200) L16(300,200) L17(400,200) L18(500,200) L19(600,200) L20(700,200) L21(800,200) L22(900,200) L23(1000,200) L24(1100,200) L25(1200,200) M1(-1200,100) M2(-1100,100) M3(-1000,100) M4(-900,100) M5(-800,100) M6(-700,100) M7(-600,100) M8(-500,100) M9(-400,100) M10(-300,100) M11(-200,100) M12(-100,100) M13(0,100) M14(100,100) M15(200,100) M16(300,100) M17(400,100) M18(500,100) M19(600,100) M20(700,100) M21(800,100) M22(900,100) M23(1000,100) M24(1100,100) M25(1200,100) N1(-1200,0) N2(-1100,0) N3(-1000,0) N4(-900,0) N5(-800,0) N6(-700,0) N7(-600,0) N8(-500,0) N9(-400,0) N10(-300,0) N11(-200,0) N12(-100,0) N13(0,0) N14(100,0) N15(200,0) N16(300,0) N17(400,0) N18(500,0) N19(600,0) N20(700,0) N21(800,0) N22(900,0) N23(1000,0) N24(1100,0) N25(1200,0) P1(-1200,-100) P2(-1100,-100) P3(-1000,-100) P4(-900,-100) P5(-800,-100) P6(-700,-100) P7(-600,-100) P8(-500,-100) P9(-400,-100) P10(-300,-100) P11(-200,-100) P12(-100,-100) P13(0,-100) P14(100,-100) P15(200,-100) P16(300,-100) P17(400,-100) P18(500,-100) P19(600,-100) P20(700,-100) P21(800,-100) P22(900,-100) P23(1000,-100) P24(1100,-100) P25(1200,-100) Q1(-1200,-200) Q2(-1100,-200) Q3(-1000,-200) Q4(-900,-200) Q5(-800,-200) Q6(-700,-200) Q7(-600,-200) Q8(-500,-200) Q9(-400,-200) Q10(-300,-200) Q11(-200,-200) Q12(-100,-200) Q13(0,-200) Q14(100,-200) Q15(200,-200) Q16(300,-200) Q17(400,-200) Q18(500,-200) Q19(600,-200) Q20(700,-200) Q21(800,-200) Q22(900,-200) Q23(1000,-200) Q24(1100,-200) Q25(1200,-200) R1(-1200,-300) R2(-1100,-300) R3(-1000,-300) R4(-900,-300) R5(-800,-300) R6(-700,-300) R7(-600,-300) R8(-500,-300) R9(-400,-300) R10(-300,-300) R11(-200,-300) R12(-100,-300) R13(0,-300) R14(100,-300) R15(200,-300) R16(300,-300) R17(400,-300) R18(500,-300) R19(600,-300) R20(700,-300) R21(800,-300) R22(900,-300) R23(1000,-300) R24(1100,-300) R25(1200,-300) S1(-1200,-400) S2(-1100,-400) S3(-1000,-400) S4(-900,-400) S5(-800,-400) S6(-700,-400) S7(-600,-400) S8(-500,-400) S9(-400,-400) S10(-300,-400) S11(-200,-400) S12(-100,-400) S13(0,-400) S14(100,-400) S15(200,-400) S16(300,-400) S17(400,-400) S18(500,-400) S19(600,-400) S20(700,-400) S21(800,-400) S22(900,-400) S23(1000,-400) S24(1100,-400) S25(1200,-400) T1(-1200,-500) T2(-1100,-500) T3(-1000,-500) T4(-900,-500) T5(-800,-500) T6(-700,-500) T7(-600,-500) T8(-500,-500) T9(-400,-500) T10(-300,-500) T11(-200,-500) T12(-100,-500) T13(0,-500) T14(100,-500) T15(200,-500) T16(300,-500) T17(400,-500) T18(500,-500) T19(600,-500) T20(700,-500) T21(800,-500) T22(900,-500) T23(1000,-500) T24(1100,-500) T25(1200,-500) U1(-1200,-600) U2(-1100,-600) U3(-1000,-600) U4(-900,-600) U5(-800,-600) U6(-700,-600) U7(-600,-600) U8(-500,-600) U9(-400,-600) U10(-300,-600) U11(-200,-600) U12(-100,-600) U13(0,-600) U14(100,-600) U15(200,-600) U16(300,-600) U17(400,-600) U18(500,-600) U19(600,-600) U20(700,-600) U21(800,-600) U22(900,-600) U23(1000,-600) U24(1100,-600) U25(1200,-600) V1(-1200,-700) V2(-1100,-700) V3(-1000,-700) V4(-900,-700) V5(-800,-700) V6(-700,-700) V7(-600,-700) V8(-500,-700) V9(-400,-700) V10(-300,-700) V11(-200,-700) V12(-100,-700) V13(0,-700) V14(100,-700) V15(200,-700) V16(300,-700) V17(400,-700) V18(500,-700) V19(600,-700) V20(700,-700) V21(800,-700) V22(900,-700) V23(1000,-700) V24(1100,-700) V25(1200,-700) W1(-1200,-800) W2(-1100,-800) W3(-1000,-800) W4(-900,-800) W5(-800,-800) W6(-700,-800) W7(-600,-800) W8(-500,-800) W9(-400,-800) W10(-300,-800) W11(-200,-800) W12(-100,-800) W13(0,-800) W14(100,-800) W15(200,-800) W16(300,-800) W17(400,-800) W18(500,-800) W19(600,-800) W20(700,-800) W21(800,-800) W22(900,-800) W23(1000,-800) W24(1100,-800) W25(1200,-800) X1(-1200,-900) X2(-1100,-900) X3(-1000,-900) X4(-900,-900) X5(-800,-900) X6(-700,-900) X7(-600,-900) X8(-500,-900) X9(-400,-900) X10(-300,-900) X11(-200,-900) X12(-100,-900) X13(0,-900) X14(100,-900) X15(200,-900) X16(300,-900) X17(400,-900) X18(500,-900) X19(600,-900) X20(700,-900) X21(800,-900) X22(900,-900) X23(1000,-900) X24(1100,-900) X25(1200,-900) Y1(-1200,-1000) Y2(-1100,-1000) Y3(-1000,-1000) Y4(-900,-1000) Y5(-800,-1000) Y6(-700,-1000) Y7(-600,-1000) Y8(-500,-1000) Y9(-400,-1000) Y10(-300,-1000) Y11(-200,-1000) Y12(-100,-1000) Y13(0,-1000) Y14(100,-1000) Y15(200,-1000) Y16(300,-1000) Y17(400,-1000) Y18(500,-1000) Y19(600,-1000) Y20(700,-1000) Y21(800,-1000) Y22(900,-1000) Y23(1000,-1000) Y24(1100,-1000) Y25(1200,-1000) Z1(-1200,-1100) Z2(-1100,-1100) Z3(-1000,-1100) Z4(-900,-1100) Z5(-800,-1100) Z6(-700,-1100) Z7(-600,-1100) Z8(-500,-1100) Z9(-400,-1100) Z10(-300,-1100) Z11(-200,-1100) Z12(-100,-1100) Z13(0,-1100) Z14(100,-1100) Z15(200,-1100) Z16(300,-1100) Z17(400,-1100) Z18(500,-1100) Z19(600,-1100) Z20(700,-1100) Z21(800,-1100) Z22(900,-1100) Z23(1000,-1100) Z24(1100,-1100) Z25(1200,-1100)
Top Overlay:
  circle w4: c0,1401 r35
  circle w4: c0,-1699 r35
  lines w12: 1321,-2053.94 1544,-2053.94 ccw(c1520.67,-1868.61) 1706,-1845.28 1662,-1198.82 1662,825 ; 1325,-1809.84 1434,-1809.84 ; 1454,-1790.16 1504,-1196.85 1504,825 ; 1504,825 1662,825 ; 1504,825 cw(c1583,716.98) 1662,825 ; -1318.9,-2191.73 1319,-2191.73 1319,1498 -1318.9,1498 -1318.9,-2191.73
Mechanical 16:
  drawing of 671 lines, arcs and shapes, not listed

## N7E50-X516XX-20 [mil]
pads (54):
  round 67 hole 67: 1(-790.55,-118.11) 1(791,-118.11)
  round 87 hole 87: 1(-790.55,0) 1(791,0)
  rect 16x138 smd: 1(-612.5,111) 2(-562.5,111) 3(-512.5,111) 4(-462.5,111) 5(-412.5,111) 6(-362.5,111) 7(-312.5,111) 8(-262.5,111) 9(-212.5,111) 10(-162.5,111) 11(-112.5,111) 12(-62.5,111) 13(-12.5,111) 14(38,111) 15(88,111) 16(138,111) 17(188,111) 18(238,111) 19(288,111) 20(338,111) 21(388,111) 22(438,111) 23(488,111) 24(538,111) 25(588,111) 26(-587.5,111) 27(-537.5,111) 28(-487.5,111) 29(-437.5,111) 30(-387.5,111) 31(-337.5,111) 32(-287.5,111) 33(-237.5,111) 34(-187.5,111) 35(-137.5,111) 36(-87.5,111) 37(-37.5,111) 38(13,111) 39(63,111) 40(113,111) 41(163,111) 42(213,111) 43(263,111) 44(313,111) 45(363,111) 46(413,111) 47(463,111) 48(513,111) 49(563,111) 50(613,111)
Top Layer:
  rectangle: -1025,-396.26 -912.5,-196.26
  rectangle: 913,-397.24 1025,-197.24
Top Overlay:
  lines w8: -790,-183.76 -790,-311.26 -300,-311.26 ; -600,-311.26 -600,-181.26 ; -550,-311.26 -550,-181.26 ; -500,-311.26 -500,-181.26 ; -450,-311.26 -450,-181.26 ; -400,-311.26 -400,-181.26 ; -350,-311.26 -350,-181.26 ; -300,-181.26 -300,-311.26 ; -250,-283.76 -250,-181.26 ; -200,-261.26 -200,-181.26 ; -150,-233.76 -150,-181.26 ; -100,-208.76 -100,-181.26 ; 100,-206.26 100,-181.26 ; 150,-231.26 150,-181.26 ; 200,-256.26 200,-181.26 ; 250,-283.76 250,-181.26 ; 300,-308.76 300,-181.26 ; 350,-311.26 350,-181.26 ; 400,-311.26 400,-181.26 ; 450,-311.26 450,-181.26 ; 500,-311.26 500,-181.26 ; 550,-311.26 550,-181.26 ; 600,-308.76 600,-181.26 ; 790,-181.26 790,-311.26 300,-311.26 40,-178.76 ; -892.5,54 -912.5,54 -912.5,-916.26 -712.5,-916.26 -712.5,-531.26 -655,-473.76 655,-473.76 713,-531.26 713,-916.26 913,-916.26 913,54 893,54 ; -892.5,54 -892.5,117 -687.5,117 -687.5,-26.26 ; -892.5,54 -892.5,-26.26 -790,-81.26 ; -790,-81.26 -687.5,-26.26 ; -790,-81.26 -790,-178.76 -40,-178.76 ; -687.5,-26.26 688,-26.26 ; -300,-311.26 -40,-178.76 ; -40,-178.76 -40,-133.76 40,-133.76 40,-178.76 ; 40,-178.76 790,-178.76 790,-81.26 ; 688,-26.26 688,119 893,119 893,54 ; 688,-26.26 790,-81.26 ; 790,-81.26 893,-26.26 893,54
Top Paste:
  rectangle: -1023.62,-394.69 -913.39,-197.83
  rectangle: 914,-395.67 1024,-198.82
Top Solder:
  rectangle: -1024.61,-395.67 -912.4,-196.85
  rectangle: 913,-396.65 1025,-197.83
Mechanical 16:
  lines w8: -912.5,-370.98 -992.5,-370.98 -992.5,-220.98 -912.5,-220.98 ; 913,-373.48 993,-373.48 993,-220.98 913,-220.98

## N7E50516 [mil]
pads (54):
  round 67 hole 67: 1(-762.6,0) 1(763,0)
  round 87 hole 87: 1(-762.6,119) 1(763,119)
  rect 16x138 smd: 1(-612.5,237) 2(-562.5,237) 3(-512.5,237) 4(-462.5,237) 5(-412.5,237) 6(-362.5,237) 7(-312.5,237) 8(-262.5,237) 9(-212.5,237) 10(-162.5,237) 11(-112.5,237) 12(-62.5,237) 13(-12.5,237) 14(38,237) 15(88,237) 16(138,237) 17(188,237) 18(238,237) 19(288,237) 20(338,237) 21(388,237) 22(438,237) 23(488,237) 24(538,237) 25(588,237) 26(-587.5,237) 27(-537.5,237) 28(-487.5,237) 29(-437.5,237) 30(-387.5,237) 31(-337.5,237) 32(-287.5,237) 33(-237.5,237) 34(-187.5,237) 35(-137.5,237) 36(-87.5,237) 37(-37.5,237) 38(13,237) 39(63,237) 40(113,237) 41(163,237) 42(213,237) 43(263,237) 44(313,237) 45(363,237) 46(413,237) 47(463,237) 48(513,237) 49(563,237) 50(613,237)
Top Layer:
  rectangle: -995.67,-74.8 -885.43,103
  rectangle: 886,-74.8 996,103
Top Overlay:
  lines w8: -884.55,169 -844.86,169 ; -884.07,168 -884.07,-332.93 -844.23,-332.93 -844.23,-58.09 ; -843.17,-332.93 ccw(c-843.17,-302.93) -813.17,-302.93 ; -842.76,-56.52 -807.09,-56.52 -787.4,-39.37 -708.66,-39.37 -688.98,-56.52 670,-56.52 689,-39.37 768,-39.37 788,-56.52 853,-56.52 ; -813.17,-304.9 -813.17,-57.19 ; -677.17,235 -677.17,270 -649.61,270 -649.61,89 650,89 ; 650,91 650,270 678,270 678,235 ; 822,-302.93 ccw(c852,-302.93) 852,-332.93 ; 822,-302.4 822,-57.72 ; 855,-56.12 855,-332.93 885,-332.93 885,168 ; 885,169 845,169 ; -844.86,169 -844.86,231 -677.26,231 -677.26,89 -762.05,34 -844.86,89 -844.86,169 ; 845,169 845,234 678,234 678,89 763,34 845,89 845,169
  lines w18: -600,-205.43 -600,-67.93 ; -550,-180.43 -550,-67.93 ; -500,-180.43 -500,-67.93 ; -450,-180.43 -450,-67.93 ; -400,-180.43 -400,-67.93 ; -350,-180.43 -350,-67.93 ; -300,-180.43 -300,-67.93 ; -250,-180.43 -250,-67.93 ; -200,-180.43 -200,-67.93 ; -150,-180.43 -150,-67.93 ; -100,-180.43 -100,-67.93 ; -50,-180.43 -50,-67.93 ; 0,-205.43 0,-67.93 ; 50,-180.43 50,-67.93 ; 100,-180.43 100,-67.93 ; 150,-180.43 150,-67.93 ; 200,-180.43 200,-67.93 ; 250,-180.43 250,-67.93 ; 300,-180.43 300,-67.93 ; 350,-180.43 350,-67.93 ; 400,-180.43 400,-67.93 ; 450,-180.43 450,-67.93 ; 500,-180.43 500,-67.93 ; 550,-180.43 550,-67.93 ; 600,-205.43 600,-67.93
  text "3M - N7E50-X516XX-20" at -500,-6.89 h77.5
Top Paste:
  rectangle: -994.09,-72.83 -887.8,100
  rectangle: 888,-72.83 995,101
Top Solder:
  rectangle: -996.06,-74.8 -885.83,103
  rectangle: 886,-74.8 997,103
Mechanical 14:
  lines w2: -885.04,-807.09 887,-807.09
  text "PCB" at -98.43,-787.4 h77.5
Mechanical 16:
  lines w8: -884.55,-63.7 -964.55,-63.7 -964.55,87 -884.55,87 ; 885,-66.2 965,-66.2 965,87 885,87

## PAK100/2500-5-10 [mil]
pads (10):
  round 56 hole 40: 1(-200,-50) 2(-200,50) 3(-100,-50) 4(-100,50) 5(0,-50) 6(0,50) 7(100,-50) 8(100,50) 9(200,-50) 10(200,50)
Top Overlay:
  region: 0,0 10,0 10,10 0,10
  lines w8: -254.17,74 -393.7,74 -393.7,437 -74.13,437 ; 304,74 444,74 444,437 234,437 ; -74.13,437 -74.13,158 75,158 75,437 ; -74.13,437 75,437 ; 75,437 176,437 ; 176,437 234,437 ; 176,437 176,398 234,398 234,437
Mechanical 16:
  lines w8: -254.02,74 304,74

## PAK100/2500-5-14 [mil]
pads (14):
  round 56 hole 40: 1(-300,-50) 2(-300,50) 3(-200,-50) 4(-200,50) 5(-100,-50) 6(-100,50) 7(0,-50) 8(0,50) 9(100,-50) 10(100,50) 11(200,-50) 12(200,50) 13(300,-50) 14(300,50)
Top Overlay:
  region: 0,0 10,0 10,10 0,10
  lines w8: -354.17,74 -493.7,74 -493.7,437 -74.13,437 ; 354,74 494,74 494,437 234,437 ; -74.13,437 -74.13,158 75,158 75,437 ; -74.13,437 75,437 ; 75,437 176,437 ; 176,437 234,437 ; 176,437 176,398 234,398 234,437
Mechanical 16:
  lines w8: -354.02,74 354,74

## PAK100/2500-5-16 [mil]
pads (16):
  round 56 hole 40: 1(-350,-50) 2(-350,50) 3(-250,-50) 4(-250,50) 5(-150,-50) 6(-150,50) 7(-50,-50) 8(-50,50) 9(50,-50) 10(50,50) 11(150,-50) 12(150,50) 13(250,-50) 14(250,50) 15(350,-50) 16(350,50)
Top Overlay:
  region: 0,0 10,0 10,10 0,10
  lines w8: -404.17,74 -543.7,74 -543.7,437 -224.45,437 ; 404,74 544,74 544,437 334,437 ; -224.45,437 -166.22,437 ; -224.45,437 -224.45,398 -166.22,398 -166.22,437 ; -166.22,437 -74.13,437 ; -74.13,437 -74.13,158 75,158 75,437 ; -74.13,437 75,437 ; 75,437 276,437 ; 276,437 334,437 ; 276,437 276,398 334,398 334,437
Mechanical 16:
  lines w8: -404.02,74 404,74

## PAK100/2500-5-20 [mil]
pads (20):
  round 56 hole 40: 1(-450,-50) 2(-450,50) 3(-350,-50) 4(-350,50) 5(-250,-50) 6(-250,50) 7(-150,-50) 8(-150,50) 9(-50,-50) 10(-50,50) 11(50,-50) 12(50,50) 13(150,-50) 14(150,50) 15(250,-50) 16(250,50) 17(350,-50) 18(350,50) 19(450,-50) 20(450,50)
Top Overlay:
  region: 0,0 10,0 10,10 0,10
  lines w8: -504.17,74 -643.7,74 -643.7,437 -324.45,437 ; 504,74 644,74 644,437 434,437 ; -324.45,437 -266.22,437 ; -324.45,437 -324.45,398 -266.22,398 -266.22,437 ; -266.22,437 -74.13,437 ; -74.13,437 -74.13,158 75,158 75,437 ; -74.13,437 75,437 ; 75,437 376,437 ; 376,437 434,437 ; 376,437 376,398 434,398 434,437
Mechanical 16:
  lines w8: -504.02,74 504,74

## PAK100/2500-5-24 [mil]
pads (24):
  round 56 hole 40: 1(-550,-50) 2(-550,50) 3(-450,-50) 4(-450,50) 5(-350,-50) 6(-350,50) 7(-250,-50) 8(-250,50) 9(-150,-50) 10(-150,50) 11(-50,-50) 12(-50,50) 13(50,-50) 14(50,50) 15(150,-50) 16(150,50) 17(250,-50) 18(250,50) 19(350,-50) 20(350,50) 21(450,-50) 22(450,50) 23(550,-50) 24(550,50)
Top Overlay:
  region: 0,0 10,0 10,10 0,10
  lines w8: -604.17,74 -743.7,74 -743.7,437 -424.45,437 ; 604,74 744,74 744,437 534,437 ; -424.45,437 -366.22,437 ; -424.45,437 -424.45,398 -366.22,398 -366.22,437 ; -366.22,437 -74.13,437 ; -74.13,437 -74.13,158 75,158 75,437 ; -74.13,437 75,437 ; 75,437 476,437 ; 476,437 534,437 ; 476,437 476,398 534,398 534,437
Mechanical 16:
  lines w8: -604.02,74 604,74

## PAK100/2500-5-26 [mil]
pads (26):
  round 56 hole 40: 1(-600,-50) 2(-600,50) 3(-500,-50) 4(-500,50) 5(-400,-50) 6(-400,50) 7(-300,-50) 8(-300,50) 9(-200,-50) 10(-200,50) 11(-100,-50) 12(-100,50) 13(0,-50) 14(0,50) 15(100,-50) 16(100,50) 17(200,-50) 18(200,50) 19(300,-50) 20(300,50) 21(400,-50) 22(400,50) 23(500,-50) 24(500,50) 25(600,-50) 26(600,50)
Top Overlay:
  region: 0,0 10,0 10,10 0,10
  lines w8: -654.17,74 -793.7,74 -793.7,437 -474.45,437 ; 654,74 794,74 794,437 584,437 ; -474.45,437 -416.22,437 ; -474.45,437 -474.45,398 -416.22,398 -416.22,437 ; -416.22,437 -74.13,437 ; -74.13,437 -74.13,158 75,158 75,437 ; -74.13,437 75,437 ; 75,437 526,437 ; 526,437 584,437 ; 526,437 526,398 584,398 584,437
Mechanical 16:
  lines w8: -654.02,74 654,74

## PAK100/2500-5-30 [mil]
pads (30):
  round 56 hole 40: 1(-700,-50) 2(-700,50) 3(-600,-50) 4(-600,50) 5(-500,-50) 6(-500,50) 7(-400,-50) 8(-400,50) 9(-300,-50) 10(-300,50) 11(-200,-50) 12(-200,50) 13(-100,-50) 14(-100,50) 15(0,-50) 16(0,50) 17(100,-50) 18(100,50) 19(200,-50) 20(200,50) 21(300,-50) 22(300,50) 23(400,-50) 24(400,50) 25(500,-50) 26(500,50) 27(600,-50) 28(600,50) 29(700,-50) 30(700,50)
Top Overlay:
  region: 0,0 10,0 10,10 0,10
  lines w8: -754.17,74 -893.7,74 -893.7,437 -574.45,437 ; 754,74 894,74 894,437 684,437 ; -574.45,437 -516.22,437 ; -574.45,437 -574.45,398 -516.22,398 -516.22,437 ; -516.22,437 -74.13,437 ; -74.13,437 -74.13,158 75,158 75,437 ; -74.13,437 75,437 ; 75,437 626,437 ; 626,437 684,437 ; 626,437 626,398 684,398 684,437
Mechanical 16:
  lines w8: -754.02,74 754,74

## PAK100/2500-5-34 [mil]
pads (34):
  round 56 hole 40: 1(-800,-50) 2(-800,50) 3(-700,-50) 4(-700,50) 5(-600,-50) 6(-600,50) 7(-500,-50) 8(-500,50) 9(-400,-50) 10(-400,50) 11(-300,-50) 12(-300,50) 13(-200,-50) 14(-200,50) 15(-100,-50) 16(-100,50) 17(0,-50) 18(0,50) 19(100,-50) 20(100,50) 21(200,-50) 22(200,50) 23(300,-50) 24(300,50) 25(400,-50) 26(400,50) 27(500,-50) 28(500,50) 29(600,-50) 30(600,50) 31(700,-50) 32(700,50) 33(800,-50) 34(800,50)
Top Overlay:
  region: 0,0 10,0 10,10 0,10
  lines w8: -854.17,74 -993.7,74 -993.7,437 -674.45,437 ; 854,74 994,74 994,437 784,437 ; -674.45,437 -616.22,437 ; -674.45,437 -674.45,398 -616.22,398 -616.22,437 ; -616.22,437 -74.13,437 ; -74.13,437 -74.13,158 75,158 75,437 ; -74.13,437 75,437 ; 75,437 726,437 ; 726,437 784,437 ; 726,437 726,398 784,398 784,437
Mechanical 16:
  lines w8: -854.02,74 854,74

## PAK100/2500-5-40 [mil]
pads (40):
  round 56 hole 40: 1(-950,-50) 2(-950,50) 3(-850,-50) 4(-850,50) 5(-750,-50) 6(-750,50) 7(-650,-50) 8(-650,50) 9(-550,-50) 10(-550,50) 11(-450,-50) 12(-450,50) 13(-350,-50) 14(-350,50) 15(-250,-50) 16(-250,50) 17(-150,-50) 18(-150,50) 19(-50,-50) 20(-50,50) 21(50,-50) 22(50,50) 23(150,-50) 24(150,50) 25(250,-50) 26(250,50) 27(350,-50) 28(350,50) 29(450,-50) 30(450,50) 31(550,-50) 32(550,50) 33(650,-50) 34(650,50) 35(750,-50) 36(750,50) 37(850,-50) 38(850,50) 39(950,-50) 40(950,50)
Top Overlay:
  region: 0,0 10,0 10,10 0,10
  lines w8: -1004.17,74 -1143.7,74 -1143.7,437 -824.45,437 ; 1004,74 1144,74 1144,437 934,437 ; -824.45,437 -766.22,437 ; -824.45,437 -824.45,398 -766.22,398 -766.22,437 ; -766.22,437 -74.13,437 ; -74.13,437 -74.13,158 75,158 75,437 ; -74.13,437 75,437 ; 75,437 876,437 ; 876,437 934,437 ; 876,437 876,398 934,398 934,437
Mechanical 16:
  lines w8: -1004.02,74 1004,74

## PAK100/2500-5-50 [mil]
pads (50):
  round 56 hole 40: 1(-1200,-50) 2(-1200,50) 3(-1100,-50) 4(-1100,50) 5(-1000,-50) 6(-1000,50) 7(-900,-50) 8(-900,50) 9(-800,-50) 10(-800,50) 11(-700,-50) 12(-700,50) 13(-600,-50) 14(-600,50) 15(-500,-50) 16(-500,50) 17(-400,-50) 18(-400,50) 19(-300,-50) 20(-300,50) 21(-200,-50) 22(-200,50) 23(-100,-50) 24(-100,50) 25(0,-50) 26(0,50) 27(100,-50) 28(100,50) 29(200,-50) 30(200,50) 31(300,-50) 32(300,50) 33(400,-50) 34(400,50) 35(500,-50) 36(500,50) 37(600,-50) 38(600,50) 39(700,-50) 40(700,50) 41(800,-50) 42(800,50) 43(900,-50) 44(900,50) 45(1000,-50) 46(1000,50) 47(1100,-50) 48(1100,50) 49(1200,-50) 50(1200,50)
Top Overlay:
  region: 0,0 10,0 10,10 0,10
  lines w8: -1254.17,74 -1393.7,74 -1393.7,437 -1074.45,437 ; 1254,74 1394,74 1394,437 1184,437 ; -1074.45,437 -1016.22,437 ; -1074.45,437 -1074.45,398 -1016.22,398 -1016.22,437 ; -1016.22,437 -74.13,437 ; -74.13,437 -74.13,158 75,158 75,437 ; -74.13,437 75,437 ; 75,437 1126,437 ; 1126,437 1184,437 ; 1126,437 1126,398 1184,398 1184,437
Mechanical 16:
  lines w8: -1254.02,74 1254,74